# Altium footprint library PcbLib1.PcbLib: 224 footprints (part 12 of 14)
Each footprint in its own frame and in the unit in brackets; x right, y up, seen from the top. Pads: shape width x height; smd on the part's side, far side on the other; paste and mask are expansions set on the pad; w line width, h text height; cw(c..) or ccw(c..) is an arc to the next point about the centre after c.
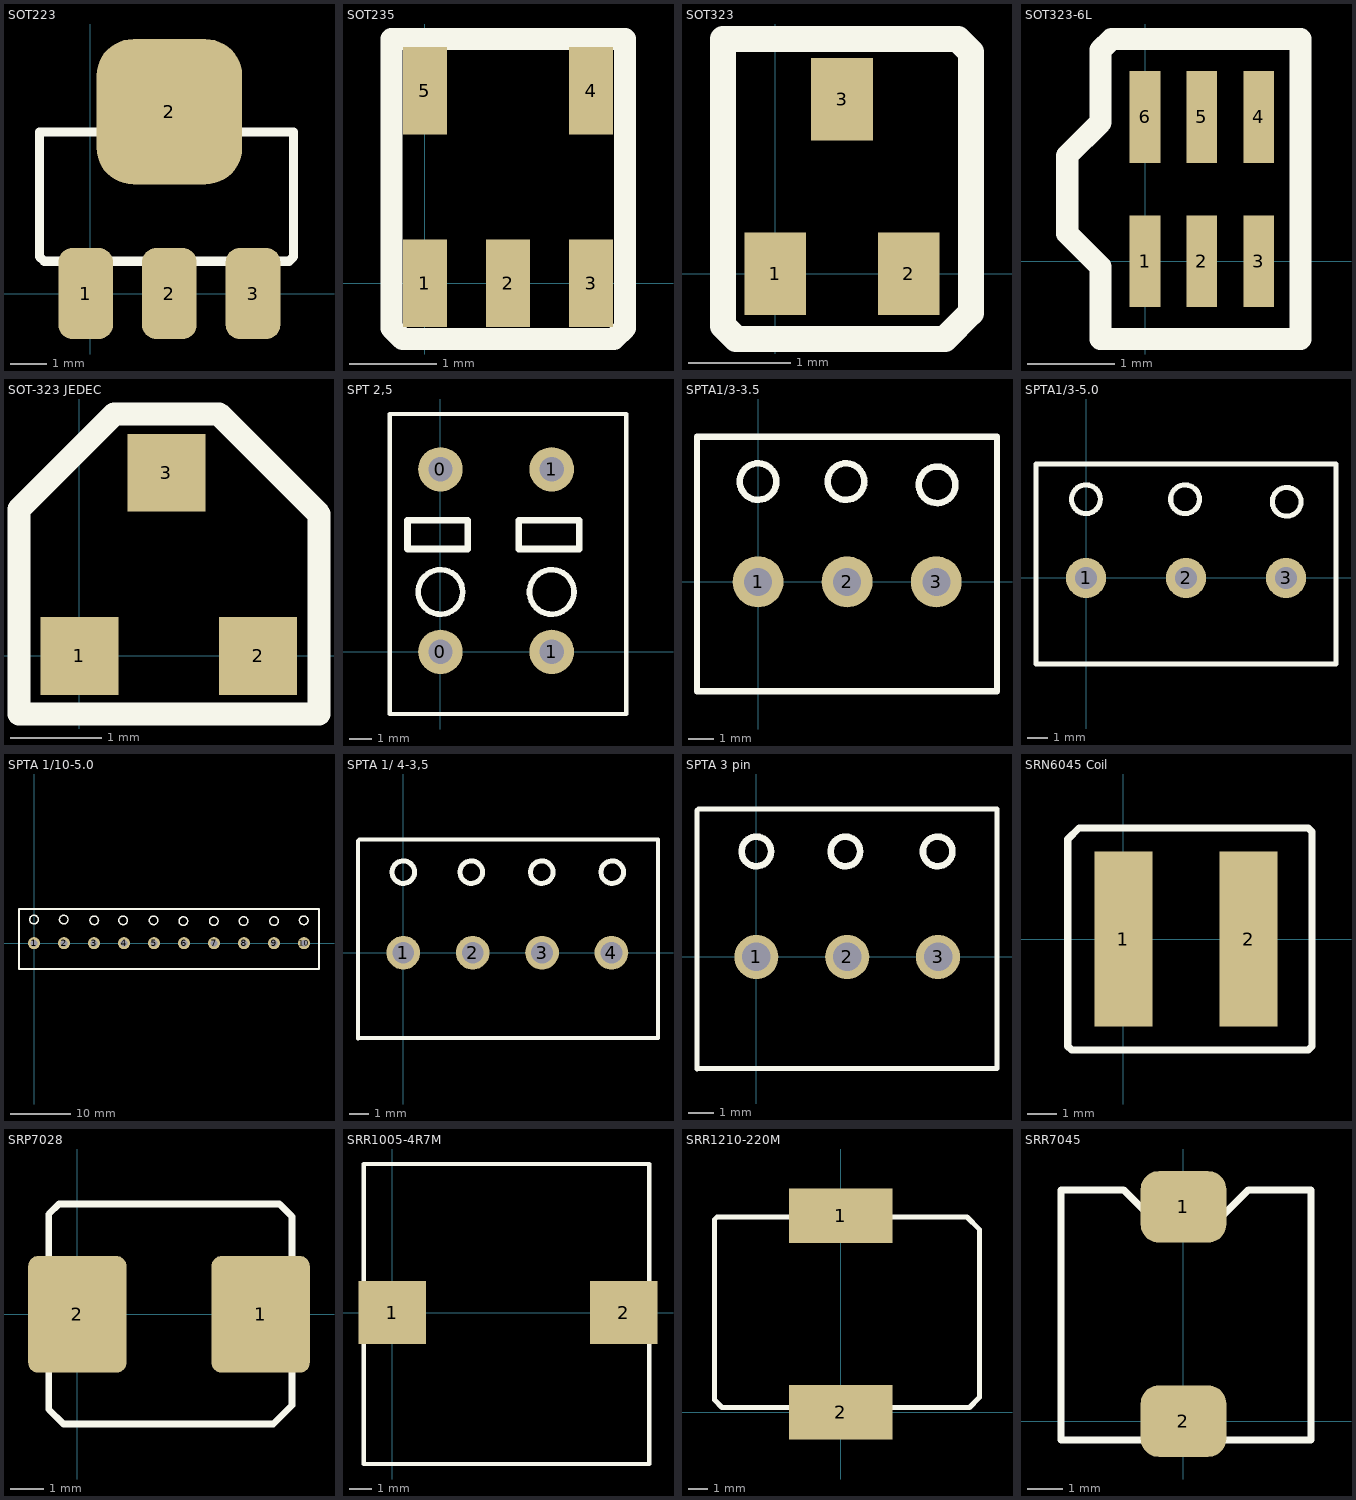
[diagram p11: the footprints below, top view; thin cyan lines are the x and y axes]

## SOT223 [mm]
height 1
pads (4):
  rrect50% 1.5x2.5 smd mask+0.1: 1(-0.127,0) 2(2.173,0) 3(4.473,0)
  rrect50% 4x4 smd: 2(2.173,5)
Top Overlay:
  lines w0.254: -1.397,1.016 -1.27,0.889 5.461,0.889 5.588,1.016 5.588,4.445 -1.397,4.445 -1.397,1.016

## SOT235 [mm]
height 1
pads (5):
  rect 0.5x1 smd: 1(0,0) 2(0.95,0) 3(1.9,0) 4(1.9,2.2) 5(0,2.2)
Top Overlay:
  lines w0.254: -0.381,-0.508 -0.381,2.794 2.286,2.794 2.286,-0.508 2.159,-0.635 -0.254,-0.635 -0.381,-0.508

## SOT323 [mm]
height 1
pads (3):
  rect 0.6x0.8 smd: 1(0,0) 2(1.3,0) 3(0.65,1.7)
Top Overlay:
  lines w0.254: -0.508,-0.508 -0.381,-0.635 1.651,-0.635 1.905,-0.381 1.905,2.159 1.778,2.286 -0.508,2.286 -0.508,-0.508

## SOT323-6L [mm]
height 1
pads (6):
  rect 0.35x1.05 smd: 1(0,0) 2(0.65,0) 3(1.3,0) 4(1.3,1.65) 5(0.65,1.65) 6(0,1.65)
Top Overlay:
  lines w0.254: -0.889,0.318 -0.508,-0.064 -0.508,-0.889 1.778,-0.889 1.778,2.54 -0.381,2.54 -0.508,2.413 -0.508,1.587 -0.889,1.206 -0.889,0.318

## SOT-323 JEDEC [mm]
height 1
pads (3):
  rect 0.85x0.85 smd: 1(0,0) 2(1.95,0) 3(0.95,2)
Top Overlay:
  lines w0.254: -0.66,-0.635 2.616,-0.635 2.616,1.549 1.524,2.642 0.381,2.642 -0.66,1.6 -0.66,-0.635

## SPT 2,5 [mm]
height 14
pads (4):
  round 2 hole 1.1: 0(0,0) 0(0,8.204) 1(5,0) 1(5,8.204)
Top Overlay:
  circle w0.254: c0,2.692 r1
  circle w0.254: c5,2.692 r1
  lines w0.2: -2.286,10.668 -2.286,-2.794 8.357,-2.794 8.357,10.693 -2.286,10.693
  lines w0.3: -1.486,5.867 -1.486,4.623 1.232,4.623 1.232,5.918 -1.486,5.918 ; 3.514,5.867 3.514,4.623 6.232,4.623 6.232,5.918 3.514,5.918

## SPTA1/3-3.5 [mm]
pads (3):
  round 2 hole 1.1: 1(0,0) 2(3.5,0) 3(7,0)
Top Overlay:
  circle w0.254: c0,3.937 r0.718
  circle w0.254: c3.453,3.937 r0.718
  circle w0.254: c7.033,3.81 r0.718
  lines w0.254: -2.4,-4.3 9.385,-4.3 9.385,5.7 -2.4,5.7 -2.4,-4.3

## SPTA1/3-5.0 [mm]
pads (3):
  round 2 hole 1.1: 1(0,0) 2(5,0) 3(10,0)
Top Overlay:
  circle w0.254: c0,3.937 r0.718
  circle w0.254: c4.953,3.937 r0.718
  circle w0.254: c10.033,3.81 r0.718
  lines w0.254: -2.5,-4.3 12.5,-4.3 12.5,5.7 -2.5,5.7 -2.5,0 -2.5,-4.3

## SPTA 1/10-5.0 [mm]
height 12.4
pads (10):
  round 2 hole 1.1: 1(0,0) 2(5,0) 3(10,0) 4(15,0) 5(20,0) 6(25,0) 7(30,0) 8(35,0) 9(40,0) 10(45,0)
Top Overlay:
  circle w0.254: c44.958,3.81 r0.718
  circle w0.254: c0,3.937 r0.718
  circle w0.254: c4.953,3.937 r0.718
  circle w0.254: c10.033,3.81 r0.718
  circle w0.254: c14.859,3.81 r0.718
  circle w0.254: c19.939,3.81 r0.718
  circle w0.254: c24.892,3.683 r0.718
  circle w0.254: c29.972,3.683 r0.718
  circle w0.254: c34.925,3.683 r0.718
  circle w0.254: c40.005,3.683 r0.718
  lines w0.254: -2.5,-4.3 47.5,-4.3 47.5,5.7 -2.5,5.7 -2.5,0 -2.5,-4.3

## SPTA 1/ 4-3,5 [mm]
height 12
pads (4):
  round 1.7 hole 1.1: 1(0,0) 2(3.5,0) 3(7,0) 4(10.5,0)
Top Overlay:
  circle w0.254: c0,4.064 r0.568
  circle w0.254: c3.429,4.064 r0.568
  circle w0.254: c6.985,4.064 r0.568
  circle w0.254: c10.541,4.064 r0.568
  lines w0.2: -2.286,-4.318 -2.268,-4.3 12.85,-4.3 12.85,5.7 -2.222,5.7 -2.286,5.636 -2.286,-4.318

## SPTA 3 pin [mm]
pads (3):
  round 1.7 hole 1.1: 1(0,0) 2(3.5,0) 3(7,0)
Top Overlay:
  circle w0.254: c6.985,4.064 r0.568
  circle w0.254: c3.429,4.064 r0.568
  circle w0.254: c0,4.064 r0.568
  lines w0.2: -2.286,-4.318 -2.286,5.636 -2.222,5.7 9.271,5.7 9.271,-4.3 -2.268,-4.3 -2.286,-4.318

## SRN6045 Coil [mm]
pads (2):
  rect 2x6 smd: 1(0,0) 2(4.3,0)
Top Overlay:
  lines w0.254: -1.905,-3.683 -1.905,3.429 -1.524,3.81 -1.27,3.81 6.35,3.81 6.477,3.683 6.477,-3.683 6.35,-3.81 -1.778,-3.81 -1.905,-3.683

## SRP7028 [mm]
height 3
pads (2):
  rrect20% 2.95x3.5 smd: 1(5.5,0) 2(0,0)
Top Overlay:
  lines w0.2: -0.856,-2.852 -0.416,-3.292 5.877,-3.292 6.441,-2.728 6.441,2.931 6.061,3.312 -0.549,3.312 -0.856,3.005 -0.856,-2.852

## SRR1005-4R7M [mm]
pads (2):
  rect 3x2.8 smd: 1(0,0) 2(10.3,0)
Top Overlay:
  lines w0.2: -1.27,-6.731 11.43,-6.731 11.43,6.604 -1.27,6.604 -1.27,1.397 -1.27,-6.731

## SRR1210-220M [mm]
pads (2):
  rect 5.3x2.8 smd: 1(0,10.1) 2(0,0)
Top Overlay:
  lines w0.254: -6.477,0.635 -6.096,0.254 6.604,0.254 7.112,0.762 7.112,9.398 6.477,10.033 -6.35,10.033 -6.477,9.906 -6.477,0.635

## SRR7045 [mm]
pads (2):
  rrect50% 2.4x2 smd: 1(0,6) 2(0,0)
Top Overlay:
  lines w0.2: -3.429,-0.523 3.571,-0.523 3.571,6.477 1.821,6.477 0.932,5.588 -0.79,5.588 -1.679,6.477 -3.429,6.477 -3.429,-0.523